# Altium footprint library PCB_ANT_VIV_24GHZ_SE_INV.PcbLib: 1 footprints
Each footprint in its own frame and in the unit in brackets; x right, y up, seen from the top. Pads: shape width x height; smd on the part's side, far side on the other; paste and mask are expansions set on the pad; w line width, h text height; cw(c..) or ccw(c..) is an arc to the next point about the centre after c.
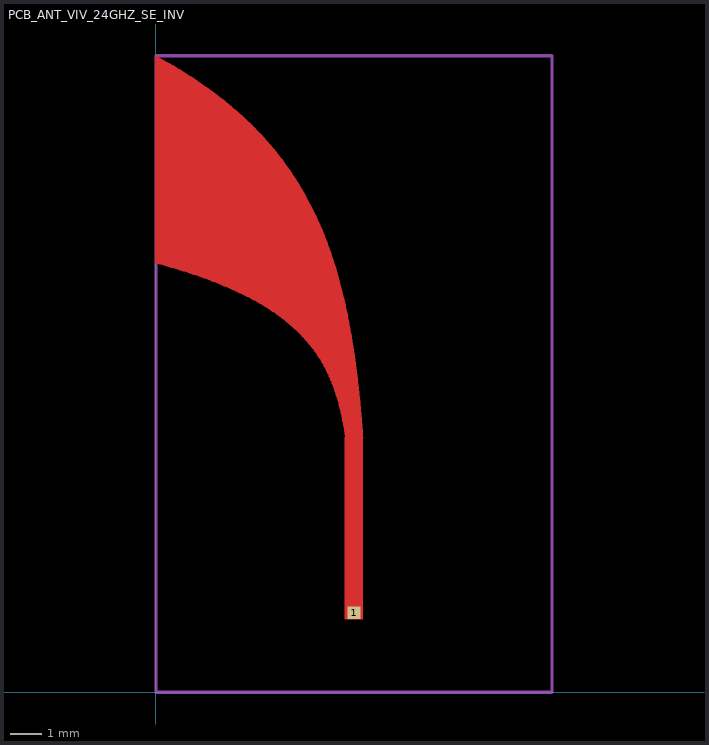
[diagram p0: the footprint, top view; thin cyan lines are the x and y axes]

## PCB_ANT_VIV_24GHZ_SE_INV [mm]
pads (1):
  rect 0.4x0.4 smd paste-2: 1(6.225,2.5)
Top Layer:
  region: 402 vertices and 0 holes, not listed, extent 0,2.3 6.495,20
  lines w0.01: 0,13.5 0,20 0.109,19.94 0.216,19.879 0.322,19.819 0.425,19.759 0.528,19.698 0.628,19.638 0.727,19.578 0.824,19.518 0.92,19.457 1.014,19.397 1.107,19.337 1.198,19.276 1.287,19.216 1.376,19.156 1.462,19.095 1.548,19.035 1.632,18.975 1.714,18.915 1.796,18.854 1.876,18.794 1.954,18.734 2.032,18.673 2.108,18.613 2.183,18.553 2.257,18.492 2.33,18.432 2.401,18.372 2.471,18.312 2.54,18.251 2.608,18.191 2.675,18.131 2.741,18.07 2.806,18.01 2.87,17.95 2.932,17.889 2.994,17.829 3.055,17.769 3.115,17.709 3.173,17.648 3.231,17.588 3.288,17.528 3.344,17.467 3.399,17.407 3.453,17.347 3.507,17.286 3.559,17.226 3.611,17.166 3.661,17.106 3.711,17.045 3.761,16.985 3.809,16.925 3.856,16.864 3.903,16.804 3.949,16.744 3.995,16.683 4.039,16.623 4.083,16.563 4.126,16.503 4.169,16.442 4.211,16.382 4.252,16.322 4.292,16.261 4.332,16.201 4.371,16.141 4.41,16.08 4.447,16.02 4.485,15.96 4.521,15.899 4.558,15.839 4.593,15.779 4.628,15.719 4.662,15.658 4.696,15.598 4.73,15.538 4.762,15.477 4.794,15.417 4.826,15.357 4.857,15.296 4.888,15.236 4.918,15.176 4.948,15.116 4.977,15.055 5.006,14.995 5.034,14.935 5.062,14.874 5.089,14.814 5.116,14.754 5.143,14.693 5.169,14.633 5.195,14.573 5.22,14.513 5.245,14.452 5.269,14.392 5.293,14.332 5.317,14.271 5.34,14.211 5.363,14.151 5.386,14.09 5.408,14.03 5.43,13.97 5.451,13.91 5.472,13.849 5.493,13.789 5.513,13.729 5.534,13.668 5.553,13.608 5.573,13.548 5.592,13.487 5.611,13.427 5.629,13.367 5.648,13.307 5.666,13.246 5.683,13.186 5.701,13.126 5.718,13.065 5.735,13.005 5.751,12.945 5.767,12.884 5.783,12.824 5.799,12.764 5.815,12.704 5.83,12.643 5.845,12.583 5.86,12.523 5.874,12.462 5.889,12.402 5.903,12.342 5.916,12.281 5.93,12.221 5.943,12.161 5.957,12.101 5.97,12.04 5.982,11.98 5.995,11.92 6.007,11.859 6.019,11.799 6.031,11.739 6.043,11.678 6.055,11.618 6.066,11.558 6.077,11.497 6.088,11.437 6.099,11.377 6.11,11.317 6.12,11.256 6.131,11.196 6.141,11.136 6.151,11.075 6.161,11.015 6.17,10.955 6.18,10.894 6.189,10.834 6.199,10.774 6.208,10.714 6.217,10.653 6.225,10.593 6.234,10.533 6.243,10.472 6.251,10.412 6.259,10.352 6.267,10.291 6.275,10.231 6.283,10.171 6.291,10.111 6.298,10.05 6.306,9.99 6.313,9.93 6.32,9.869 6.327,9.809 6.334,9.749 6.341,9.688 6.348,9.628 6.355,9.568 6.361,9.508 6.368,9.447 6.374,9.387 6.38,9.327 6.387,9.266 6.393,9.206 6.399,9.146 6.404,9.085 6.41,9.025 6.416,8.965 6.421,8.905 6.427,8.844 6.432,8.784 6.438,8.724 6.443,8.663 6.448,8.603 6.453,8.543 6.458,8.482 6.463,8.422 6.468,8.362 6.472,8.302 6.477,8.241 6.482,8.181 6.486,8.121 6.491,8.06 6.495,8 6.495,2.3 5.955,2.3 5.955,8 5.951,8.028 5.947,8.055 5.943,8.083 5.939,8.111 5.934,8.138 5.93,8.166 5.926,8.193 5.921,8.221 5.916,8.249 5.912,8.276 5.907,8.304 5.902,8.332 5.897,8.359 5.893,8.387 5.888,8.415 5.882,8.442 5.877,8.47 5.872,8.497 5.867,8.525 5.861,8.553 5.856,8.58 5.85,8.608 5.844,8.636 5.838,8.663 5.832,8.691 5.826,8.719 5.82,8.746 5.814,8.774 5.808,8.802 5.801,8.829 5.795,8.857 5.788,8.884 5.782,8.912 5.775,8.94 5.768,8.967 5.761,8.995 5.753,9.023 5.746,9.05 5.739,9.078 5.731,9.106 5.724,9.133 5.716,9.161 5.708,9.188 5.7,9.216 5.692,9.244 5.683,9.271 5.675,9.299 5.666,9.327 5.657,9.354 5.649,9.382 5.64,9.41 5.63,9.437 5.621,9.465 5.612,9.492 5.602,9.52 5.592,9.548 5.582,9.575 5.572,9.603 5.562,9.631 5.551,9.658 5.541,9.686 5.53,9.714 5.519,9.741 5.508,9.769 5.497,9.796 5.485,9.824 5.473,9.852 5.461,9.879 5.449,9.907 5.437,9.935 5.425,9.962 5.412,9.99 5.399,10.018 5.386,10.045 5.373,10.073 5.359,10.101 5.345,10.128 5.331,10.156 5.317,10.183 5.303,10.211 5.288,10.239 5.273,10.266 5.258,10.294 5.242,10.322 5.227,10.349 5.211,10.377 5.195,10.405 5.178,10.432 5.161,10.46 5.144,10.487 5.127,10.515 5.109,10.543 5.092,10.57 5.074,10.598 5.055,10.626 5.036,10.653 5.017,10.681 4.998,10.709 4.978,10.736 4.958,10.764 4.938,10.791 4.917,10.819 4.896,10.847 4.875,10.874 4.853,10.902 4.831,10.93 4.809,10.957 4.786,10.985 4.763,11.013 4.739,11.04 4.715,11.068 4.691,11.095 4.666,11.123 4.641,11.151 4.616,11.178 4.59,11.206 4.563,11.234 4.537,11.261 4.509,11.289 4.482,11.317 4.454,11.344 4.425,11.372 4.396,11.399 4.366,11.427 4.336,11.455 4.306,11.482 4.275,11.51 4.243,11.538 4.211,11.565 4.179,11.593 4.146,11.621 4.112,11.648 4.078,11.676 4.043,11.704 4.008,11.731 3.972,11.759 3.935,11.786 3.898,11.814 3.86,11.842 3.822,11.869 3.783,11.897 3.744,11.925 3.703,11.952 3.663,11.98 3.621,12.008 3.579,12.035 3.536,12.063 3.492,12.09 3.448,12.118 3.403,12.146 3.357,12.173 3.31,12.201 3.263,12.229 3.215,12.256 3.166,12.284 3.116,12.312 3.066,12.339 3.015,12.367 2.962,12.394 2.909,12.422 2.856,12.45 2.801,12.477 2.745,12.505 2.689,12.533 2.631,12.56 2.573,12.588 2.513,12.616 2.453,12.643 2.392,12.671 2.329,12.698 2.266,12.726 2.201,12.754 2.136,12.781 2.069,12.809 2.002,12.837 1.933,12.864 1.863,12.892 1.792,12.92 1.72,12.947 1.646,12.975 1.572,13.003 1.496,13.03 1.419,13.058 1.341,13.085 1.261,13.113 1.18,13.141 1.098,13.168 1.015,13.196 0.93,13.224 0.843,13.251 0.756,13.279 0.666,13.307 0.576,13.334 0.484,13.362 0.39,13.389 0.295,13.417 0.198,13.445 0.1,13.472 0,13.5
Ground Plane:
  region: 215 vertices and 0 holes, not listed, extent 6.495,4 12.45,13.5
  region: 217 vertices and 0 holes, not listed, extent 0,4 12.45,20
  lines w0.01: 0,4 0,20 12.45,20 12.341,19.94 12.234,19.879 12.128,19.819 12.025,19.759 11.922,19.698 11.822,19.638 11.723,19.578 11.626,19.518 11.53,19.457 11.436,19.397 11.343,19.337 11.252,19.276 11.163,19.216 11.074,19.156 10.988,19.095 10.902,19.035 10.818,18.975 10.736,18.915 10.654,18.854 10.574,18.794 10.496,18.734 10.418,18.673 10.342,18.613 10.267,18.553 10.193,18.492 10.12,18.432 10.049,18.372 9.979,18.312 9.91,18.251 9.842,18.191 9.775,18.131 9.709,18.07 9.644,18.01 9.58,17.95 9.518,17.889 9.456,17.829 9.395,17.769 9.335,17.709 9.277,17.648 9.219,17.588 9.162,17.528 9.106,17.467 9.051,17.407 8.997,17.347 8.943,17.286 8.891,17.226 8.839,17.166 8.789,17.106 8.739,17.045 8.689,16.985 8.641,16.925 8.594,16.864 8.547,16.804 8.501,16.744 8.455,16.683 8.411,16.623 8.367,16.563 8.324,16.503 8.281,16.442 8.239,16.382 8.198,16.322 8.158,16.261 8.118,16.201 8.079,16.141 8.04,16.08 8.003,16.02 7.965,15.96 7.929,15.899 7.892,15.839 7.857,15.779 7.822,15.719 7.788,15.658 7.754,15.598 7.72,15.538 7.688,15.477 7.656,15.417 7.624,15.357 7.593,15.296 7.562,15.236 7.532,15.176 7.502,15.116 7.473,15.055 7.444,14.995 7.416,14.935 7.388,14.874 7.361,14.814 7.334,14.754 7.307,14.693 7.281,14.633 7.255,14.573 7.23,14.513 7.205,14.452 7.181,14.392 7.157,14.332 7.133,14.271 7.11,14.211 7.087,14.151 7.064,14.09 7.042,14.03 7.02,13.97 6.999,13.91 6.978,13.849 6.957,13.789 6.937,13.729 6.916,13.668 6.897,13.608 6.877,13.548 6.858,13.487 6.839,13.427 6.821,13.367 6.802,13.307 6.784,13.246 6.767,13.186 6.749,13.126 6.732,13.065 6.715,13.005 6.699,12.945 6.683,12.884 6.667,12.824 6.651,12.764 6.635,12.704 6.62,12.643 6.605,12.583 6.59,12.523 6.576,12.462 6.561,12.402 6.547,12.342 6.534,12.281 6.52,12.221 6.506,12.161 6.493,12.101 6.48,12.04 6.468,11.98 6.455,11.92 6.443,11.859 6.431,11.799 6.419,11.739 6.407,11.678 6.395,11.618 6.384,11.558 6.373,11.497 6.362,11.437 6.351,11.377 6.34,11.317 6.33,11.256 6.319,11.196 6.309,11.136 6.299,11.075 6.289,11.015 6.28,10.955 6.27,10.894 6.261,10.834 6.251,10.774 6.242,10.714 6.233,10.653 6.225,10.593 6.216,10.533 6.207,10.472 6.199,10.412 6.191,10.352 6.183,10.291 6.175,10.231 6.167,10.171 6.159,10.111 6.152,10.05 6.144,9.99 6.137,9.93 6.13,9.869 6.123,9.809 6.116,9.749 6.109,9.688 6.102,9.628 6.095,9.568 6.089,9.508 6.082,9.447 6.076,9.387 6.07,9.327 6.063,9.266 6.057,9.206 6.051,9.146 6.046,9.085 6.04,9.025 6.034,8.965 6.029,8.905 6.023,8.844 6.018,8.784 6.012,8.724 6.007,8.663 6.002,8.603 5.997,8.543 5.992,8.482 5.987,8.422 5.982,8.362 5.978,8.302 5.973,8.241 5.968,8.181 5.964,8.121 5.959,8.06 5.955,8 cw(c1.955,8) 1.955,4 0,4 ; 6.495,8 ccw(c10.495,8) 10.495,4 12.45,4 12.45,13.5 12.35,13.472 12.252,13.445 12.155,13.417 12.06,13.389 11.966,13.362 11.874,13.334 11.784,13.307 11.694,13.279 11.607,13.251 11.52,13.224 11.435,13.196 11.352,13.168 11.27,13.141 11.189,13.113 11.109,13.085 11.031,13.058 10.954,13.03 10.878,13.003 10.804,12.975 10.73,12.947 10.658,12.92 10.587,12.892 10.517,12.864 10.448,12.837 10.381,12.809 10.314,12.781 10.249,12.754 10.184,12.726 10.121,12.698 10.058,12.671 9.997,12.643 9.937,12.616 9.877,12.588 9.819,12.56 9.761,12.533 9.705,12.505 9.649,12.477 9.594,12.45 9.541,12.422 9.487,12.394 9.435,12.367 9.384,12.339 9.334,12.312 9.284,12.284 9.235,12.256 9.187,12.229 9.14,12.201 9.093,12.173 9.047,12.146 9.002,12.118 8.958,12.09 8.914,12.063 8.871,12.035 8.829,12.008 8.787,11.98 8.747,11.952 8.706,11.925 8.667,11.897 8.628,11.869 8.59,11.842 8.552,11.814 8.515,11.786 8.478,11.759 8.442,11.731 8.407,11.704 8.372,11.676 8.338,11.648 8.304,11.621 8.271,11.593 8.239,11.565 8.207,11.538 8.175,11.51 8.144,11.482 8.114,11.455 8.084,11.427 8.054,11.399 8.025,11.372 7.996,11.344 7.968,11.317 7.941,11.289 7.913,11.261 7.887,11.234 7.86,11.206 7.834,11.178 7.809,11.151 7.784,11.123 7.759,11.095 7.735,11.068 7.711,11.04 7.687,11.013 7.664,10.985 7.641,10.957 7.619,10.93 7.597,10.902 7.575,10.874 7.554,10.847 7.533,10.819 7.512,10.791 7.492,10.764 7.472,10.736 7.452,10.709 7.433,10.681 7.414,10.653 7.395,10.626 7.376,10.598 7.358,10.57 7.341,10.543 7.323,10.515 7.306,10.487 7.289,10.46 7.272,10.432 7.255,10.405 7.239,10.377 7.223,10.349 7.208,10.322 7.192,10.294 7.177,10.266 7.162,10.239 7.147,10.211 7.133,10.183 7.119,10.156 7.105,10.128 7.091,10.101 7.077,10.073 7.064,10.045 7.051,10.018 7.038,9.99 7.025,9.962 7.013,9.935 7.001,9.907 6.989,9.879 6.977,9.852 6.965,9.824 6.953,9.796 6.942,9.769 6.931,9.741 6.92,9.714 6.909,9.686 6.899,9.658 6.888,9.631 6.878,9.603 6.868,9.575 6.858,9.548 6.848,9.52 6.838,9.492 6.829,9.465 6.82,9.437 6.81,9.41 6.801,9.382 6.793,9.354 6.784,9.327 6.775,9.299 6.767,9.271 6.758,9.244 6.75,9.216 6.742,9.188 6.734,9.161 6.726,9.133 6.719,9.106 6.711,9.078 6.704,9.05 6.697,9.023 6.689,8.995 6.682,8.967 6.675,8.94 6.668,8.912 6.662,8.884 6.655,8.857 6.649,8.829 6.642,8.802 6.636,8.774 6.63,8.746 6.624,8.719 6.618,8.691 6.612,8.663 6.606,8.636 6.6,8.608 6.594,8.58 6.589,8.553 6.583,8.525 6.578,8.497 6.573,8.47 6.568,8.442 6.562,8.415 6.557,8.387 6.553,8.359 6.548,8.332 6.543,8.304 6.538,8.276 6.533,8.249 6.529,8.221 6.524,8.193 6.52,8.166 6.516,8.138 6.511,8.111 6.507,8.083 6.503,8.055 6.499,8.028 6.495,8
Mechanical 15:
  lines w0.1: 0,0 12.45,0 12.45,20 0,20 0,0